# EAGLE library part CONN-DB37 (library QuantumOptics)
D-Type DB-37
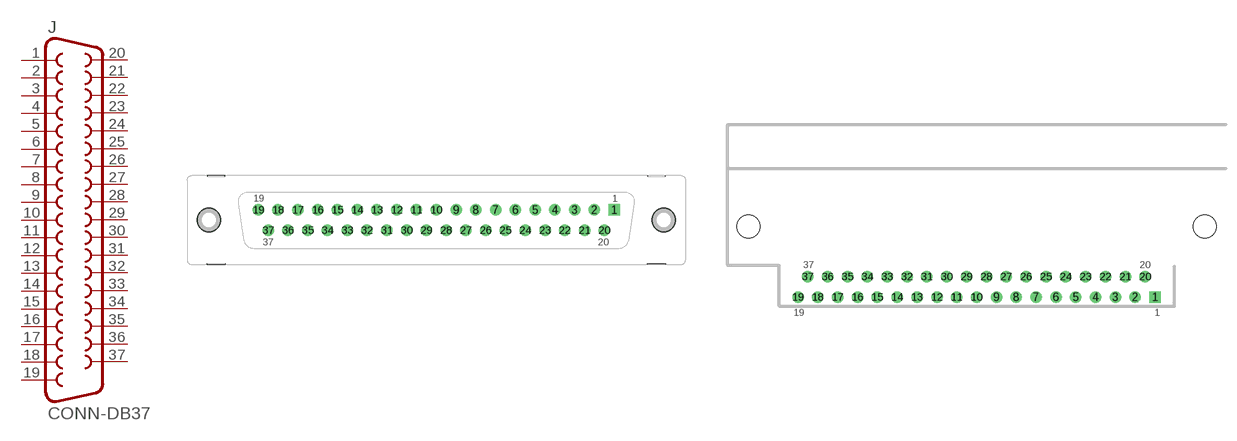
[diagram p7: symbol with the pads of CONN-DB37-VERT; footprints CONN-DB37-VERT, CONN-DB37-AMPHENOL-TYPE1]

Designator prefix J

## CONN-DB37V  [CONN-DB37-VERT]
1  1  pas
2  2  pas
3  3  pas
4  4  pas
5  5  pas
6  6  pas
7  7  pas
8  8  pas
9  9  pas
10  10  pas
11  11  pas
12  12  pas
13  13  pas
14  14  pas
15  15  pas
16  16  pas
17  17  pas
18  18  pas
19  19  pas
20  20  pas
21  21  pas
22  22  pas
23  23  pas
24  24  pas
25  25  pas
26  26  pas
27  27  pas
28  28  pas
29  29  pas
30  30  pas
31  31  pas
32  32  pas
33  33  pas
34  34  pas
35  35  pas
36  36  pas
37  37  pas

## CONN-DB37-RA  [CONN-DB37-AMPHENOL-TYPE1]
Pads as for CONN-DB37-VERT

## Footprint CONN-DB37-VERT (pad centres in mm)
Sub-D, 37 pin, vertical PCB mount.
drill 1.067 square: 1 24.841,1.422
drill 1.067: 2 22.073,1.422; 3 19.329,1.422; 4 16.561,1.422; 5 13.792,1.422; 6 11.049,1.422; 7 8.28,1.422; 8 5.512,1.422; 9 2.769,1.422; 10 0,1.422; 11 -2.769,1.422; 12 -5.512,1.422; 13 -8.28,1.422; 14 -11.049,1.422; 15 -13.818,1.422; 16 -16.561,1.422; 17 -19.329,1.422; 18 -22.098,1.422; 19 -24.841,1.422; 20 23.47,-1.422; 21 20.701,-1.422; 22 17.932,-1.422; 23 15.189,-1.422; 24 12.421,-1.422; 25 9.652,-1.422; 26 6.909,-1.422; 27 4.14,-1.422; 28 1.372,-1.422; 29 -1.372,-1.422; 30 -4.14,-1.422; 31 -6.909,-1.422; 32 -9.677,-1.422; 33 -12.421,-1.422; 34 -15.189,-1.422; 35 -17.958,-1.422; 36 -20.701,-1.422; 37 -23.47,-1.422
hole 3.175 at 31.75,0
hole 3.175 at -31.75,0

## Footprint CONN-DB37-AMPHENOL-TYPE1 (pad centres in mm)
DB-37, Amp, PCB, right angle. Pin spacing 0.1086" nom, rows 0.112", staggered rows. For example, type 747462.
drill 1.067 square: 1 24.841,0
drill 1.067: 2 22.073,0; 3 19.329,0; 4 16.561,0; 5 13.792,0; 6 11.049,0; 7 8.28,0; 8 5.512,0; 9 2.769,0; 10 0,0; 11 -2.769,0; 12 -5.512,0; 13 -8.28,0; 14 -11.049,0; 15 -13.818,0; 16 -16.561,0; 17 -19.329,0; 18 -22.098,0; 19 -24.841,0; 20 23.47,2.845; 21 20.701,2.845; 22 17.932,2.845; 23 15.189,2.845; 24 12.421,2.845; 25 9.652,2.845; 26 6.909,2.845; 27 4.14,2.845; 28 1.372,2.845; 29 -1.372,2.845; 30 -4.14,2.845; 31 -6.909,2.845; 32 -9.677,2.845; 33 -12.421,2.845; 34 -15.189,2.845; 35 -17.958,2.845; 36 -20.701,2.845; 37 -23.47,2.845
hole 3.175 at -31.75,9.83
hole 3.175 at 31.75,9.83